# Altium footprint library arduino_PcbLib.PcbLib: 29 footprints (part 1 of 2)
Each footprint in its own frame and in the unit in brackets; x right, y up, seen from the top. Pads: shape width x height; smd on the part's side, far side on the other; paste and mask are expansions set on the pad; w line width, h text height; cw(c..) or ccw(c..) is an arc to the next point about the centre after c.
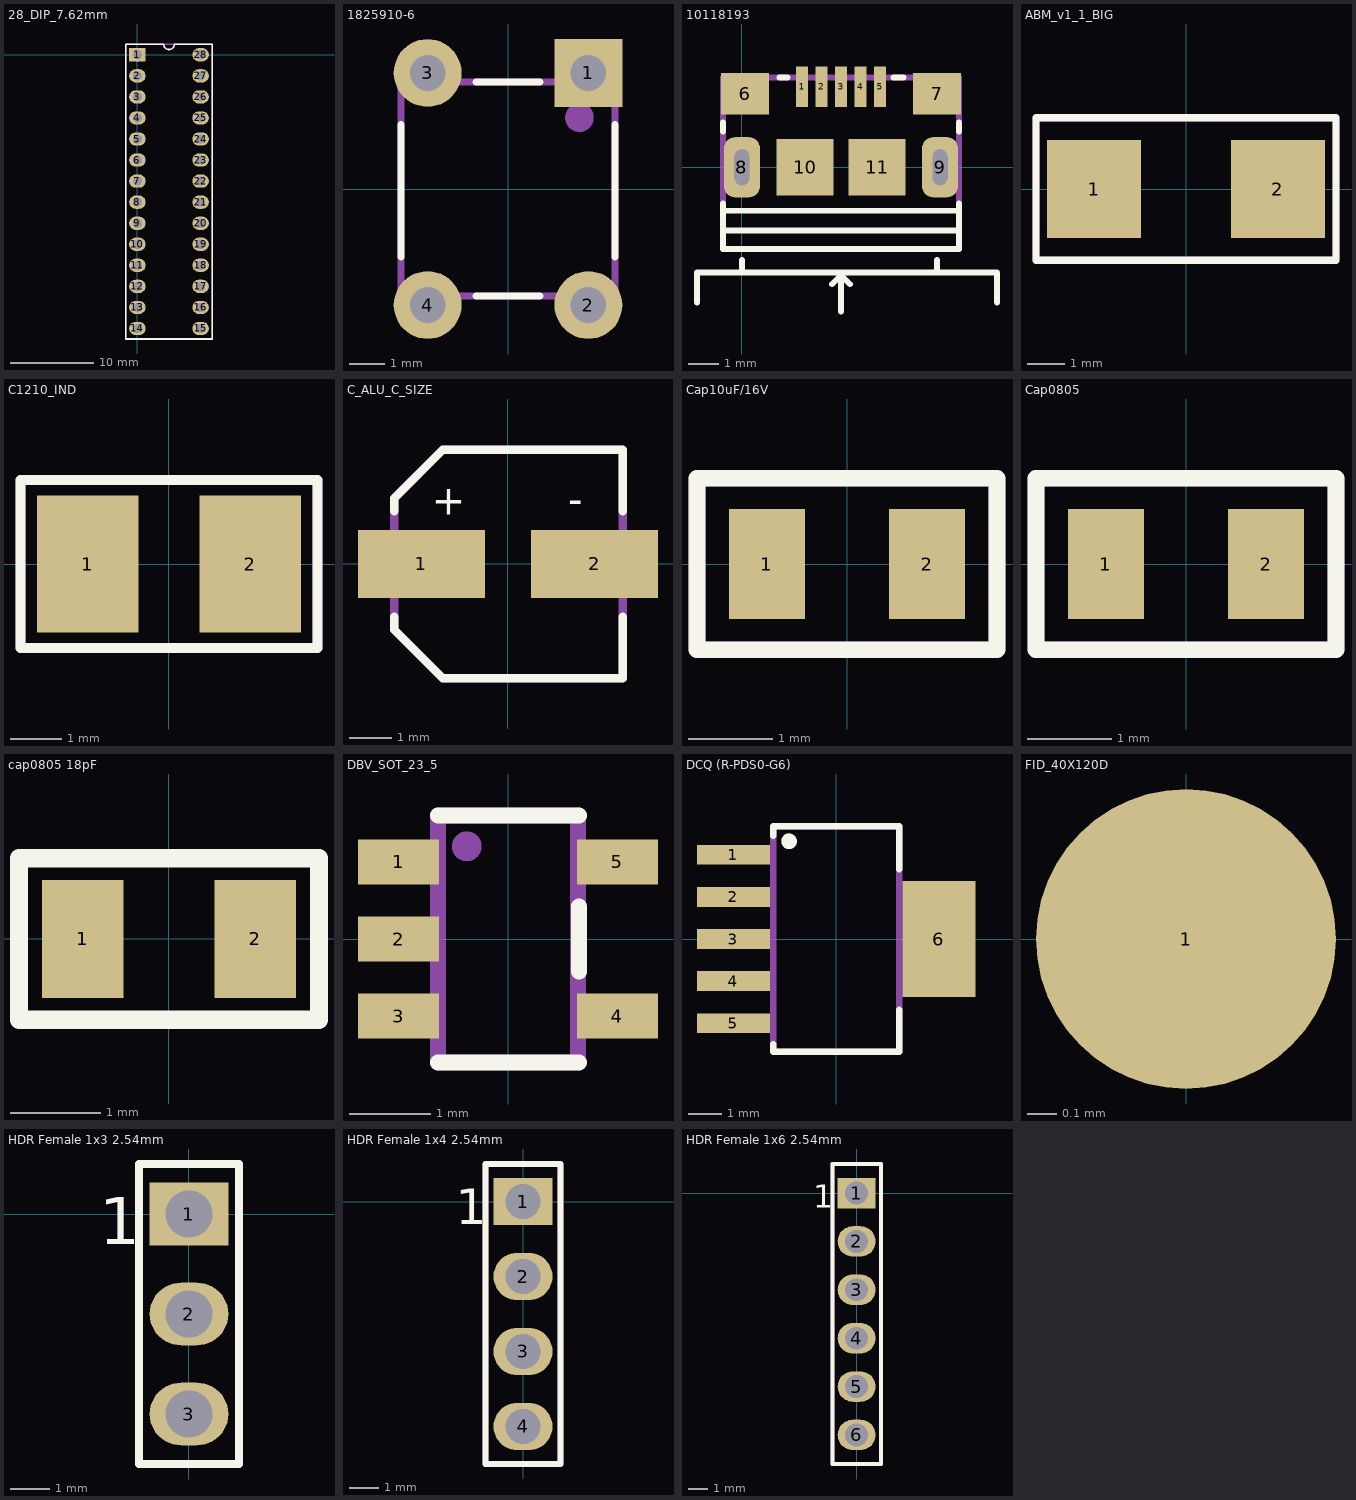
[diagram p0: the footprints below, top view; thin cyan lines are the x and y axes]

## 28_DIP_7.62mm [mm]
pads (28):
  rect 2x1.6 hole 1.1: 1(0,0)
  oval 2x1.6 hole 1.1: 2(0,-2.54) 3(0,-5.08) 4(0,-7.62) 5(0,-10.16) 6(0,-12.7) 7(0,-15.24) 8(0,-17.78) 9(0,-20.32) 10(0,-22.86) 11(0,-25.4) 12(0,-27.94) 13(0,-30.48) 14(0,-33.02) 15(7.62,-33.02) 16(7.62,-30.48) 17(7.62,-27.94) 18(7.62,-25.4) 19(7.62,-22.86) 20(7.62,-20.32) 21(7.62,-17.78) 22(7.62,-15.24) 23(7.62,-12.7) 24(7.62,-10.16) 25(7.62,-7.62) 26(7.62,-5.08) 27(7.62,-2.54) 28(7.62,0)
Top Overlay:
  lines w0.2: -1.397,-34.29 -1.397,1.27 3.175,1.27 ccw(c3.81,1.27) 4.445,1.27 9.017,1.27 9.017,-34.29 -1.397,-34.29
Mechanical 29:
  circle w0.8: c0,-0.025 r0.378
  lines w0.2: -1.397,-34.29 9.017,-34.29 9.017,1.27 -1.397,1.27 -1.397,-34.29
  text ".Designator" at 3.81,-21.59 h1.2
3D body "User Library-User Library-ATmega 48_88_168_328 28P3_90DEG.step": height 7.94, standoff 0.82, extent -0.27,-33.782 7.636,0.868

## 28_DIP_7.62mm_SOCKET [mm]
3D body "dil_socket.stp": height 4.3, standoff -3.07, extent -1.24,-34.23 8.86,1.27

## 1825910-6 [mm]
pads (4):
  rect 1.9x1.9 hole 1: 1(2.25,3.25)
  round 1.9 hole 1: 2(2.25,-3.25) 3(-2.25,3.25) 4(-2.25,-3.25)
Top Overlay:
  lines w0.2: -3,-1.9 -3,1.8 ; -0.9,-3 0.9,-3 ; -0.9,3 0.9,3 ; 3,-1.9 3,1.8
Mechanical 29:
  circle w0.6: c2,2 r0.1
  lines w0.2: -3,-3 3,-3 3,3 -3,3 -3,-3
  text ".Designator" at -0.8,-0.4 h1.2
3D body "switches1825910-6.step": height 5, standoff -3.51, extent -2.995,-3.898 2.995,3.9

## 10118193 [mm]
pads (11):
  rect 0.4x1.35 smd mask+0.05: 1(2,2.675) 2(2.65,2.675) 3(3.3,2.675) 4(3.95,2.675) 5(4.6,2.675)
  rect 1.6x1.4 smd: 6(0.1,2.45) 7(6.5,2.45)
  rrect60% 1.2x2 hole 0.5 slot 1.2 at 90 deg: 8(0,0) 9(6.6,0)
  rect 1.9x1.9 smd: 10(2.1,0) 11(4.5,0)
Top Overlay:
  lines w0.2: -1.5,-4.5 -1.5,-3.5 8.5,-3.5 8.5,-4.5 ; -0.637,-1.2 -0.637,-1.45 ; -0.637,1.185 -0.637,1.49 ; -0.6,-2.1 7.225,-2.1 ; 0,-3.5 0,-3.1 ; 1.243,2.989 1.522,2.989 ; 3,-3.9 3.3,-3.6 ; 3.3,-4.8 3.3,-3.6 ; 3.6,-3.9 3.3,-3.6 ; 5.053,2.989 5.383,2.989 ; 6.5,-3.4 6.5,-3.1 ; 7.237,-1.212 7.237,-1.45 ; 7.237,1.185 7.237,1.49 ; -0.637,-1.45 7.237,-1.45 ; -0.637,-1.45 -0.637,-2.726 7.237,-2.726 7.237,-1.45 ; 3.3,-3.6 3.3,-3.6
Mechanical 29:
  lines w0.2: -0.637,-2.726 7.237,-2.726 7.237,2.989 1.014,2.989 -0.637,2.989 -0.637,-2.726
  text ".Designator" at 1.852,-2.498 h1.2
3D body "10118193-0001LF--3DModel-STEP-56544.STEP": height 2.86, standoff -0.74, extent -0.63,-2.723 7.23,2.987

## ABM_v1_1_BIG [mm]
pads (2):
  rect 2.5x2.6 smd: 1(-2.45,0) 2(2.45,0)
Top Overlay:
  lines w0.2: -4,-1.905 -4,0 -4,1.905 4,1.905 4,-1.905 -4,-1.905
Mechanical 29:
  lines w0.2: -4,-1.905 -4,1.905 4,1.905 4,-1.905 -4,-1.905
  text ".Designator" at -1.1,-0.6 h1.2
3D body "ABM7-16.000MHZ-D2Y-T.STEP": height 1.41, standoff 0.01, extent -3,-1.75 3,1.75

## C1210_IND [mm]
pads (2):
  rect 2x2.7 smd: 1(-1.6,0) 2(1.6,0)
Top Overlay:
  lines w0.2: -2.921,-1.651 2.921,-1.651 2.921,1.651 -2.921,1.651 -2.921,-1.651
Mechanical 29:
  lines w0.2: -2.921,-1.651 -2.921,1.651 2.921,1.651 2.921,-1.651 -2.921,-1.651
  text ".Designator" at -1.016,-0.635 h1.2
3D body: height 2.7, standoff 0, extent -1,-1.25 1,1.25
3D body: height 2.7, standoff 0, extent 1,-1.25 1.6,1.25
3D body: height 2.7, standoff 0, extent -1.6,-1.25 -1,1.25

## C_ALU_C_SIZE [mm]
pads (2):
  rect 3x1.6 smd: 1(-2.05,0) 2(2.05,0)
Top Overlay:
  lines w0.2: -2.695,1.245 -2.695,1.553 -1.548,2.7 2.718,2.7 2.718,1.245 ; -2.693,-1.245 -2.695,-1.553 -1.548,-2.7 2.718,-2.7 2.718,-1.245
  text "-" at 1.422,1.194 h0.7
  text "+" at -1.803,1.168 h0.7
Mechanical 29:
  lines w0.2: 2.71,2.7 -1.548,2.7 -2.692,1.556 -2.692,-1.245 -2.695,-1.248 -2.695,-1.553 -1.548,-2.7 2.718,-2.7 2.718,2.692
  text ".Designator" at -1.092,-0.711 h1.2
  text "-" at 1.422,1.194 h0.7
  text "+" at -1.803,1.168 h0.7
3D body "Cap_aluminum.STEP": height 5.81, standoff 0.01, extent -3,-2.65 3,2.65

## Cap10uF/16V [mm]
pads (2):
  rect 0.9x1.3 smd: 1(-0.95,0) 2(0.95,0)
Top Overlay:
  lines w0.2: -1.778,-1.016 1.778,-1.016 1.778,1.016 -1.778,1.016 -1.778,-1.016
Mechanical 29:
  lines w0.2: -1.778,-1.016 -1.778,1.016 1.778,1.016 1.778,-1.016 -1.778,-1.016
  text ".Designator" at -1.016,-0.508 h1.2
3D body "CAPC2012X145N EIA 0805.step": height 1.46, standoff 0.01, extent -1,-0.6 1,0.6

## Cap0805 [mm]
pads (2):
  rect 0.9x1.3 smd: 1(-0.95,0) 2(0.95,0)
Top Overlay:
  lines w0.2: -1.778,-1.016 -1.778,1.016 1.778,1.016 1.778,-1.016 -1.778,-1.016
Mechanical 29:
  lines w0.2: -1.778,-1.016 -1.778,1.016 1.778,1.016 1.778,-1.016 -1.778,-1.016
  text ".Designator" at -1.27,-0.635 h1.2
3D body "CAPC2012X95N EIA 0805.step": height 0.96, standoff 0.01, extent -1,-0.6 1,0.6

## cap0805 18pF [mm]
pads (2):
  rect 0.9x1.3 smd: 1(-0.95,0) 2(0.95,0)
Top Overlay:
  lines w0.2: -1.651,-0.889 1.651,-0.889 1.651,0.889 -1.651,0.889 -1.651,-0.889
3D body "C0805C180C5GAC7800.STEP": height 0.89, standoff 0.01, extent -1,-0.625 1,0.625

## DBV_SOT_23_5 [mm]
pads (5):
  rect 1x0.55 smd: 1(-1.35,0.95) 2(-1.35,0) 3(-1.35,-0.95) 4(1.35,-0.95) 5(1.35,0.95)
Top Overlay:
  lines w0.2: -0.864,-1.524 0.875,-1.524 ; -0.864,1.524 0.875,1.524 ; 0.875,-0.4 0.875,0.4
Mechanical 29:
  circle w0.254: c-0.508,1.143 r0.057
  lines w0.2: -0.864,-1.524 0.864,-1.524 0.864,1.524 -0.864,1.524 -0.864,-1.524
  text ".Designator" at 0.635,-1.016 h1.2
3D body "CircuitWorks-SOT-23-5.step": height 1.11, standoff 0.01, extent -1.25,-1.5 1.25,1.5

## DCQ (R-PDS0-G6) [mm]
pads (6):
  rect 2.2x0.6 smd: 1(-3.1,2.54) 2(-3.1,1.27) 3(-3.1,0) 4(-3.1,-1.27) 5(-3.1,-2.54)
  rect 2.2x3.5 smd: 6(3.1,0)
Top Overlay:
  circle w0.254: c-1.422,2.946 r0.108
  lines w0.2: -1.905,-3.175 -1.905,-3.404 1.905,-3.404 1.905,-2.134 ; -1.905,3.124 -1.905,3.404 1.905,3.404 1.905,2.108
Mechanical 29:
  circle w0.254: c-1.422,2.946 r0.108
  lines w0.2: -1.905,-3.404 1.905,-3.404 1.905,3.404 -1.905,3.404 -1.905,-3.404
  text ".Designator" at -0.94,-0.559 h1.2
3D body "User Library-TPS73701DCQ.step": height 1.79, standoff -0.01, extent -3.63,-3.275 3.63,3.275

## FID_40X120D [mil]
pads (1):
  round 40 smd paste-1574.8 mask+40: 1(0,0)

## HDR Female 1x3 2.54mm [mm]
pads (3):
  rect 2x1.6 hole 1.2: 1(0,0)
  oval 2x1.6 hole 1.2: 2(0,-2.54) 3(0,-5.08)
Top Overlay:
  lines w0.2: -1.27,-6.35 1.27,-6.35 1.27,1.27 -1.27,1.27 -1.27,-6.35
  text "1" at -2.286,-0.762 h1.2
Mechanical 29:
  circle w0.6: c0,0 r0.254
  lines w0.2: -1.27,-6.35 1.27,-6.35 1.27,1.27 -1.27,1.27 -1.27,-6.35
  text ".Designator" at 0.508,-4.064 h1.2
3D body "User Library-Header_Male_3Pin.STEP": height 8.55, standoff -2.99, extent -1.245,-6.35 1.245,1.27

## HDR Female 1x4 2.54mm [mm]
pads (4):
  rect 2x1.6 hole 1.2: 1(0,0)
  oval 2x1.6 hole 1.2: 2(0,-2.54) 3(0,-5.08) 4(0,-7.62)
Top Overlay:
  lines w0.2: -1.27,-8.89 1.27,-8.89 1.27,1.27 -1.27,1.27 -1.27,-8.89
  text "1" at -2.286,-0.762 h1.2
Mechanical 29:
  circle w0.6: c0,0 r0.254
  lines w0.2: -1.27,-8.89 1.27,-8.89 1.27,1.27 -1.27,1.27 -1.27,-8.89
  text ".Designator" at 0.381,-5.334 h1.2
3D body "User Library-Header_Male_4Pin.STEP": height 8.55, standoff -2.99, extent -1.22,-8.89 1.27,1.27

## HDR Female 1x6 2.54mm [mm]
pads (6):
  rect 2x1.6 hole 1.2: 1(0,0)
  oval 2x1.6 hole 1.2: 2(0,-2.54) 3(0,-5.08) 4(0,-7.62) 5(0,-10.16) 6(0,-12.7)
Top Overlay:
  lines w0.2: -1.27,-14.224 1.27,-14.224 1.27,1.524 -1.27,1.524 -1.27,-14.224
  text "1" at -2.286,-0.762 h1.2
Mechanical 29:
  circle w0.6: c0,0 r0.254
  lines w0.2: -1.27,-14.224 -1.27,1.524 1.27,1.524 1.27,-14.224 -1.27,-14.224
  text ".Designator" at 0.508,-11.938 h1.2
3D body "User Library-zl262-6s_p2-54_l15-74_w2-54_h8-5.step": height 8.51, standoff -2.99, extent -1.27,-14.216 1.27,1.524